# Altium integrated library TI Data Converters Analog to Digital Converter.IntLib: 2197 symbols (part 105 of 168)
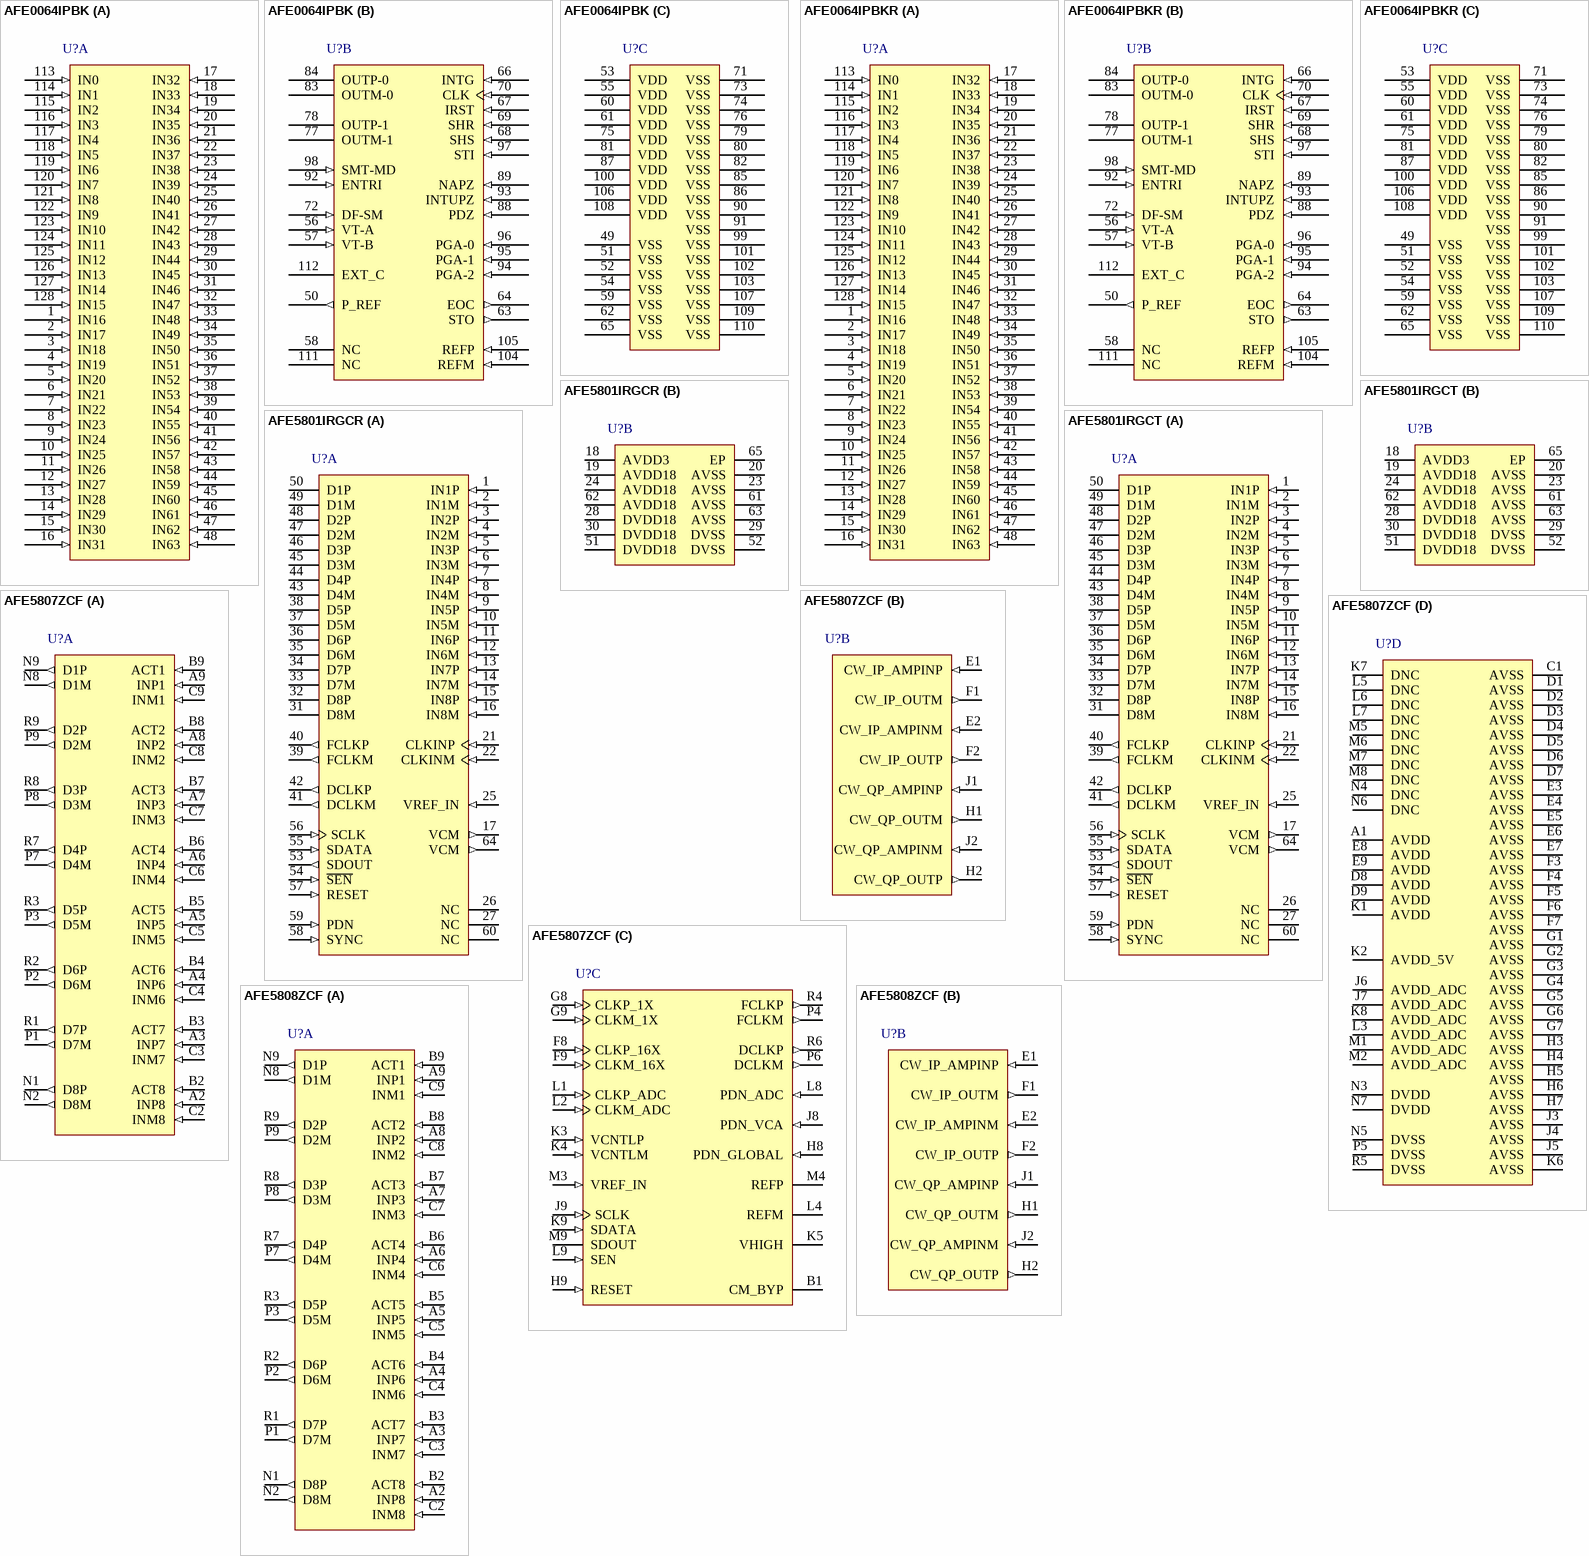
[diagram p230: symbols AFE0064IPBK to AFE5808ZCF]

## AFE5801IRGCR
designator U?
8-Channel VGA with ADC, -40 to 85 degC, 64-pin QFN (RGC64), Green (RoHS & no Sb/Br); Manufacturer: Texas Instruments; PartNumber: AFE5801IRGCR; # Input Channels: 8; Analog Voltage AV/DD(Max)(V): 1.7; Analog Voltage AV/DD(Min)(V): 1.9; Resolution(Bits): 12; SFDR(dB): 65; SNR(dB): 66; SubFamily: High Speed ADC (>10MSPS); DatasheetVersion: SLOS591D; PackageVersion: 4204106/F, 11/2011; PackageReference: RGC64-7400X7400TP; PackageDescription: 64-Pin Plastic Quad Flatpack No-Lead, Body 9 x 9 mm, Pitch 0.5 mm; Supplier 1: Digi-Key; Supplier Part Number 1: ADS1210P-ND; Supplier 2: Newark; Supplier Part Number 2: 96K4580; Supplier 3: Mouser; Supplier Part Number 3: 595-ADS1210P; Digital Supply(Max)(V): 1.7; Digital Supply(Min)(V): 1.9; Eco-Plan: Green (RoHS & no Sb/Br); Mounting Technology: Surface Mount; ComponentLink1Description: Manufacturer URL; ComponentLink1URL: http://www.ti.com/; ComponentLink2Description: Datasheet; ComponentLink2URL: http://www.ti.com/general/docs/lit/getliterature.tsp?genericPartNumber=AFE5801&fileType=pdf; ComponentLink3Description: Package Specification; ComponentLink3URL: http://www.ti.com/litv/pdf/mpqf125e
footprint TI-RGC64-7400X7400TP_V (QFN, 64-Leads, Body 9x9mm, Pitch 0.5mm, Thermal Pad 7.4x7.4mm, TI Recommended)
part A pins: 1 IN1P (in) "Differential analog input pins for channels 1 to 8", 2 IN1M (in) "Differential analog input pins for channels 1 to 8", 3 IN2P (in) "Differential analog input pins for channels 1 to 8", 4 IN2M (in) "Differential analog input pins for channels 1 to 8", 5 IN3P (in) "Differential analog input pins for channels 1 to 8", 6 IN3M (in) "Differential analog input pins for channels 1 to 8", 7 IN4P (in) "Differential analog input pins for channels 1 to 8", 8 IN4M (in) "Differential analog input pins for channels 1 to 8", 9 IN5P (in) "Differential analog input pins for channels 1 to 8", 10 IN5M (in) "Differential analog input pins for channels 1 to 8", 11 IN6P (in) "Differential analog input pins for channels 1 to 8", 12 IN6M (in) "Differential analog input pins for channels 1 to 8", 13 IN7P (in) "Differential analog input pins for channels 1 to 8", 14 IN7M (in) "Differential analog input pins for channels 1 to 8", 15 IN8P (in) "Differential analog input pins for channels 1 to 8", 16 IN8M (in) "Differential analog input pins for channels 1 to 8", 17 VCM (out) "Common-mode output pins for possible bias of the analog input signals", 21 CLKINP (in) "Differential clock input pins. Single-ended clock is also supported. See the Clock Inputs section.", 22 CLKINM (in) "Differential clock input pins. Single-ended clock is also supported. See the Clock Inputs section.", 25 VREF_IN (in) "Reference input in the external reference mode", 26 NC "Do not connect", 27 NC "Do not connect", 31 D8M (hiz) "LVDS outputs for channels 1 to 8", 32 D8P (hiz) "LVDS outputs for channels 1 to 8", 33 D7M (hiz) "LVDS outputs for channels 1 to 8", 34 D7P (hiz) "LVDS outputs for channels 1 to 8", 35 D6M (hiz) "LVDS outputs for channels 1 to 8", 36 D6P (hiz) "LVDS outputs for channels 1 to 8", 37 D5M (hiz) "LVDS outputs for channels 1 to 8", 38 D5P (hiz) "LVDS outputs for channels 1 to 8", 39 FCLKM (out) "LVDS frame clock output", 40 FCLKP (out) "LVDS frame clock output", 41 DCLKM (out) "LVDS bit clock output", 42 DCLKP (out) "LVDS bit clock output", 43 D4M (hiz) "LVDS outputs for channels 1 to 8", 44 D4P (hiz) "LVDS outputs for channels 1 to 8", 45 D3M (hiz) "LVDS outputs for channels 1 to 8", 46 D3P (hiz) "LVDS outputs for channels 1 to 8", 47 D2M (hiz) "LVDS outputs for channels 1 to 8", 48 D2P (hiz) "LVDS outputs for channels 1 to 8", 49 D1M (hiz) "LVDS outputs for channels 1 to 8", 50 D1P (hiz) "LVDS outputs for channels 1 to 8", 53 SDOUT (out) "Serial interface data readout", 54 ~{SEN} (in) "Serial interface enable. 100kohm pullup resistor", 55 SDATA (in) "Serial interface data input. 100kohm pulldown resistor", 56 SCLK (in) "Serial interface clock input. 100kohm pulldown resistor", 57 RESET (in) "Hardware reset pin (active-high). 100kohm pulldown resistor", 58 SYNC (in) "TGC/VGA synchronization signal input. 100kohm pulldown resistor", 59 PDN (in) "Global power-down control input (active-high). 100kohm pulldown resistor", 60 NC "Do not connect", 64 VCM (out) "Common-mode output pins for possible bias of the analog input signals"
part B pins: 18 AVDD3 (power) "3.3V analog supply voltage", 19 AVDD18 (power) "1.8V analog supply voltage", 20 AVSS (power) "Analog ground", 23 AVSS (power) "Analog ground", 24 AVDD18 (power) "1.8V analog supply voltage", 28 DVDD18 (power) "1.8V LVDS buffer supply voltage", 29 DVSS (power) "Digital ground", 30 DVDD18 (power) "1.8V LVDS buffer supply voltage", 51 DVDD18 (power) "1.8V LVDS buffer supply voltage", 52 DVSS (power) "Digital ground", 61 AVSS (power) "Analog ground", 62 AVDD18 (power) "1.8V analog supply voltage", 63 AVSS (power) "Analog ground", 65 EP (power) "Connect to AVSS"

## AFE5801IRGCT
designator U?
8-Channel VGA with ADC, -40 to 85 degC, 64-pin QFN (RGC64), Green (RoHS & no Sb/Br); Manufacturer: Texas Instruments; PartNumber: AFE5801IRGCT; # Input Channels: 8; Analog Voltage AV/DD(Max)(V): 1.7; Analog Voltage AV/DD(Min)(V): 1.9; Resolution(Bits): 12; SFDR(dB): 65; SNR(dB): 66; SubFamily: High Speed ADC (>10MSPS); DatasheetVersion: SLOS591D; PackageVersion: 4204106/F, 11/2011; PackageReference: RGC64-7400X7400TP; PackageDescription: 64-Pin Plastic Quad Flatpack No-Lead, Body 9 x 9 mm, Pitch 0.5 mm; Supplier 1: Digi-Key; Supplier Part Number 1: ADS1210PG4-ND; Supplier 2: Newark; Supplier Part Number 2: 26M8819; Supplier 3: Mouser; Supplier Part Number 3: 595-ADS1210PG4; Digital Supply(Max)(V): 1.7; Digital Supply(Min)(V): 1.9; Eco-Plan: Green (RoHS & no Sb/Br); Mounting Technology: Surface Mount; ComponentLink1Description: Manufacturer URL; ComponentLink1URL: http://www.ti.com/; ComponentLink2Description: Datasheet; ComponentLink2URL: http://www.ti.com/general/docs/lit/getliterature.tsp?genericPartNumber=AFE5801&fileType=pdf; ComponentLink3Description: Package Specification; ComponentLink3URL: http://www.ti.com/litv/pdf/mpqf125e
footprint TI-RGC64-7400X7400TP_V (QFN, 64-Leads, Body 9x9mm, Pitch 0.5mm, Thermal Pad 7.4x7.4mm, TI Recommended)
part A pins: 1 IN1P (in) "Differential analog input pins for channels 1 to 8", 2 IN1M (in) "Differential analog input pins for channels 1 to 8", 3 IN2P (in) "Differential analog input pins for channels 1 to 8", 4 IN2M (in) "Differential analog input pins for channels 1 to 8", 5 IN3P (in) "Differential analog input pins for channels 1 to 8", 6 IN3M (in) "Differential analog input pins for channels 1 to 8", 7 IN4P (in) "Differential analog input pins for channels 1 to 8", 8 IN4M (in) "Differential analog input pins for channels 1 to 8", 9 IN5P (in) "Differential analog input pins for channels 1 to 8", 10 IN5M (in) "Differential analog input pins for channels 1 to 8", 11 IN6P (in) "Differential analog input pins for channels 1 to 8", 12 IN6M (in) "Differential analog input pins for channels 1 to 8", 13 IN7P (in) "Differential analog input pins for channels 1 to 8", 14 IN7M (in) "Differential analog input pins for channels 1 to 8", 15 IN8P (in) "Differential analog input pins for channels 1 to 8", 16 IN8M (in) "Differential analog input pins for channels 1 to 8", 17 VCM (out) "Common-mode output pins for possible bias of the analog input signals", 21 CLKINP (in) "Differential clock input pins. Single-ended clock is also supported. See the Clock Inputs section.", 22 CLKINM (in) "Differential clock input pins. Single-ended clock is also supported. See the Clock Inputs section.", 25 VREF_IN (in) "Reference input in the external reference mode", 26 NC "Do not connect", 27 NC "Do not connect", 31 D8M (hiz) "LVDS outputs for channels 1 to 8", 32 D8P (hiz) "LVDS outputs for channels 1 to 8", 33 D7M (hiz) "LVDS outputs for channels 1 to 8", 34 D7P (hiz) "LVDS outputs for channels 1 to 8", 35 D6M (hiz) "LVDS outputs for channels 1 to 8", 36 D6P (hiz) "LVDS outputs for channels 1 to 8", 37 D5M (hiz) "LVDS outputs for channels 1 to 8", 38 D5P (hiz) "LVDS outputs for channels 1 to 8", 39 FCLKM (out) "LVDS frame clock output", 40 FCLKP (out) "LVDS frame clock output", 41 DCLKM (out) "LVDS bit clock output", 42 DCLKP (out) "LVDS bit clock output", 43 D4M (hiz) "LVDS outputs for channels 1 to 8", 44 D4P (hiz) "LVDS outputs for channels 1 to 8", 45 D3M (hiz) "LVDS outputs for channels 1 to 8", 46 D3P (hiz) "LVDS outputs for channels 1 to 8", 47 D2M (hiz) "LVDS outputs for channels 1 to 8", 48 D2P (hiz) "LVDS outputs for channels 1 to 8", 49 D1M (hiz) "LVDS outputs for channels 1 to 8", 50 D1P (hiz) "LVDS outputs for channels 1 to 8", 53 SDOUT (out) "Serial interface data readout", 54 ~{SEN} (in) "Serial interface enable. 100kohm pullup resistor", 55 SDATA (in) "Serial interface data input. 100kohm pulldown resistor", 56 SCLK (in) "Serial interface clock input. 100kohm pulldown resistor", 57 RESET (in) "Hardware reset pin (active-high). 100kohm pulldown resistor", 58 SYNC (in) "TGC/VGA synchronization signal input. 100kohm pulldown resistor", 59 PDN (in) "Global power-down control input (active-high). 100kohm pulldown resistor", 60 NC "Do not connect", 64 VCM (out) "Common-mode output pins for possible bias of the analog input signals"
part B pins: 18 AVDD3 (power) "3.3V analog supply voltage", 19 AVDD18 (power) "1.8V analog supply voltage", 20 AVSS (power) "Analog ground", 23 AVSS (power) "Analog ground", 24 AVDD18 (power) "1.8V analog supply voltage", 28 DVDD18 (power) "1.8V LVDS buffer supply voltage", 29 DVSS (power) "Digital ground", 30 DVDD18 (power) "1.8V LVDS buffer supply voltage", 51 DVDD18 (power) "1.8V LVDS buffer supply voltage", 52 DVSS (power) "Digital ground", 61 AVSS (power) "Analog ground", 62 AVDD18 (power) "1.8V analog supply voltage", 63 AVSS (power) "Analog ground", 65 EP (power) "Connect to AVSS"

## AFE5807ZCF
designator U?
8-Channel Analog Front End with Passive CW Mixer for Ultrasound, 0 to 85 degC, 135-pin BGA (ZCF135), Green (RoHS & no Sb/Br); Manufacturer: Texas Instruments; PartNumber: AFE5807ZCF; # Input Channels: 8; Analog Voltage AV/DD(Max)(V): 3.6; Analog Voltage AV/DD(Min)(V): 3.15; Digital Supply(Max)(V): 1.9; Digital Supply(Min)(V): 1.7; Resolution(Bits): 12; Sample Rate (max)(SPS): 80M; SNR(dB): 66.3; SubFamily: High Speed ADC (>10MSPS); DatasheetVersion: SLOS703C; PackageVersion: 4209006/A, 09/2007; PackageReference: ZCF135; PackageDescription: 135-Pin Plastic Grid Array, Body 15 x 9 mm, Pitch 1 mm; Supplier 1: Digi-Key; Supplier Part Number 1: ADS1210U-ND; Supplier 2: Mouser; Supplier Part Number 2: 595-ADS1210U; Eco-Plan: Green (RoHS & no Sb/Br); Mounting Technology: Surface Mount; ComponentLink1Description: Manufacturer URL; ComponentLink1URL: http://www.ti.com/; ComponentLink2Description: Datasheet; ComponentLink2URL: http://www.ti.com/general/docs/lit/getliterature.tsp?genericPartNumber=AFE5807&fileType=pdf; ComponentLink3Description: Package Specification; ComponentLink3URL: http://www.ti.com/litv/pdf/mpbg840
footprint TI-ZCF135 (BGA, 135-Balls, Body 15x9mm, Pitch 1mm)
part A pins: A2 INP8 (in) "CH1~8 analog inputs. AC couple to inputs with >= 0.1uF capacitors.", A3 INP7 (in) "CH1~8 analog inputs. AC couple to inputs with >= 0.1uF capacitors.", A4 INP6 (in) "CH1~8 analog inputs. AC couple to inputs with >= 0.1uF capacitors.", A5 INP5 (in) "CH1~8 analog inputs. AC couple to inputs with >= 0.1uF capacitors.", A6 INP4 (in) "CH1~8 analog inputs. AC couple to inputs with >= 0.1uF capacitors.", A7 INP3 (in) "CH1~8 analog inputs. AC couple to inputs with >= 0.1uF capacitors.", A8 INP2 (in) "CH1~8 analog inputs. AC couple to inputs with >= 0.1uF capacitors.", A9 INP1 (in) "CH1~8 analog inputs. AC couple to inputs with >= 0.1uF capacitors.", B2 ACT8 (in) "Active termination input pins for CH1~8. 1 uF capacitors are recommended.", B3 ACT7 (in) "Active termination input pins for CH1~8. 1 uF capacitors are recommended.", B4 ACT6 (in) "Active termination input pins for CH1~8. 1 uF capacitors are recommended.", B5 ACT5 (in) "Active termination input pins for CH1~8. 1 uF capacitors are recommended.", B6 ACT4 (in) "Active termination input pins for CH1~8. 1 uF capacitors are recommended.", B7 ACT3 (in) "Active termination input pins for CH1~8. 1 uF capacitors are recommended.", B8 ACT2 (in) "Active termination input pins for CH1~8. 1 uF capacitors are recommended.", B9 ACT1 (in) "Active termination input pins for CH1~8. 1 uF capacitors are recommended.", C2 INM8 (in) "CH1~8 complimentary analog inputs. Bypass to ground with >= 0.015uF capacitors. The HPF response of the LNA depends on the capacitors.", C3 INM7 (in) "CH1~8 complimentary analog inputs. Bypass to ground with >= 0.015uF capacitors. The HPF response of the LNA depends on the capacitors.", C4 INM6 (in) "CH1~8 complimentary analog inputs. Bypass to ground with >= 0.015uF capacitors. The HPF response of the LNA depends on the capacitors.", C5 INM5 (in) "CH1~8 complimentary analog inputs. Bypass to ground with >= 0.015uF capacitors. The HPF response of the LNA depends on the capacitors.", C6 INM4 (in) "CH1~8 complimentary analog inputs. Bypass to ground with >= 0.015uF capacitors. The HPF response of the LNA depends on the capacitors.", C7 INM3 (in) "CH1~8 complimentary analog inputs. Bypass to ground with >= 0.015uF capacitors. The HPF response of the LNA depends on the capacitors.", C8 INM2 (in) "CH1~8 complimentary analog inputs. Bypass to ground with >= 0.015uF capacitors. The HPF response of the LNA depends on the capacitors.", C9 INM1 (in) "CH1~8 complimentary analog inputs. Bypass to ground with >= 0.015uF capacitors. The HPF response of the LNA depends on the capacitors.", N1 D8P (out) "ADC CH1~8 LVDS positive outputs", N2 D8M (out) "ADC CH1~8 LVDS negative outputs", N8 D1M (out) "ADC CH1~8 LVDS negative outputs", N9 D1P (out) "ADC CH1~8 LVDS positive outputs", P1 D7M (out) "ADC CH1~8 LVDS negative outputs", P2 D6M (out) "ADC CH1~8 LVDS negative outputs", P3 D5M (out) "ADC CH1~8 LVDS negative outputs", P7 D4M (out) "ADC CH1~8 LVDS negative outputs", P8 D3M (out) "ADC CH1~8 LVDS negative outputs", P9 D2M (out) "ADC CH1~8 LVDS negative outputs", R1 D7P (out) "ADC CH1~8 LVDS positive outputs", R2 D6P (out) "ADC CH1~8 LVDS positive outputs", R3 D5P (out) "ADC CH1~8 LVDS positive outputs", R7 D4P (out) "ADC CH1~8 LVDS positive outputs", R8 D3P (out) "ADC CH1~8 LVDS positive outputs", R9 D2P (out) "ADC CH1~8 LVDS positive outputs"
part B pins: E1 CW_IP_AMPINP (in) "Positive differential input of the In-phase summing amplifier. External LPF capacitor has to be connected between CW_IP_AMPINP and CW_IP_OUTM. This pin becomes the CH7 PGA positive output when PGA test mode is enabled. Can (See Datasheet)", E2 CW_IP_AMPINM (in) "Negative differential input of the In-phase summing amplifier. External LPF capacitor has to be connected between CW_IP_AMPINM and CW_IP_OUTP. This pin becomes the CH7 PGA negative output when PGA test mode is enabled. Can (See Datasheet)", F1 CW_IP_OUTM (out) "Negative differential output for the In-phase summing amplifier. External LPF capacitor has to be connected between CW_IP_AMPINP and CW_IP_OUTPM. Can be floated if not used.", F2 CW_IP_OUTP (out) "Positive differential output for the In-phase summing amplifier. External LPF capacitor has to be connected between CW_IP_AMPINM and CW_IP_OUTP. Can be floated if not used.", H1 CW_QP_OUTM (out) "Negative differential output for the quadrature-phase summing amplifier. External LPF capacitor has to be connected between CW_QP_AMPINP and CW_QP_OUTM. Can be floated if not used.", H2 CW_QP_OUTP (out) "Positive differential output for the quadrature-phase summing amplifier. External LPF capacitor has to be connected between CW_QP_AMPINM and CW_QP_OUTP. Can be floated if not used.", J1 CW_QP_AMPINP (in) "Positive differential input of the quadrature-phase summing amplifier. External LPF capacitor has to be connected between CW_QP_AMPINP and CW_QP_OUTM. This pin becomes CH8 PGA positive output when PGA test mode is enabled. (See Datasheet)", J2 CW_QP_AMPINM (in) "Negative differential input of the quadrature-phase summing amplifier. External LPF capacitor has to be connected between CW_QP_AMPINM and CW_QP_OUTP. This pin becomes CH8 PGA negative output when PGA test mode is enabled. (See Datasheet)"
part C pins: B1 CM_BYP "Bias voltage and bypass to ground. >= 1uF is recommended. To suppress ultra low frequency noise, 10uF can be used.", F8 CLKP_16X (in) "Positive input of differential CW 16X clock. In 4X and 8X clock modes, this pin becomes the 4X or 8X CLKP input. In the 1X CW clock mode, this pin becomes the quadrature-phase 1X CLKP for the CW mixer. Can be floated if CW (See Datasheet)", F9 CLKM_16X (in) "Negative input of differential CW 16X clock. Tie to GND when the CMOS clock mode is enabled. In the 4X and 8X CW clock modes, this pin becomes the 4X or 8X CLKM input. In the 1X CW clock mode, this pin becomes the (See Datasheet)", G8 CLKP_1X (in) "Positive input of differential CW 1X clock. In the 1X clock mode, this pin is the In-phase 1X CLKP for the CW mixer. Can be floated if CW mode is not used.", G9 CLKM_1X (in) "Negative input of differential CW 1X clock. Tie to GND when the CMOS clock mode is enabled (Refer to Figure 89 for details). In the 1X clock mode, this pin is the In-phase 1X CLKM for the CW mixer. Can be floated if CW mode (See Datasheet)", H8 PDN_GLOBAL (in) "Global (complete) power-down control pin for the entire chip with an internal pull down resistor of 20kohm. Active High, 3.3V logic level is recommended.", H9 RESET (in) "Hardware reset pin with an internal pull-down resistor of 20kohm. Active high, 3.3V logic level is recommended.", J8 PDN_VCA (in) "VCA partial (fast) power down control pin with an internal pull down resistor of 20kohm. Active High, 3.3V logic level is recommended.", J9 SCLK (in) "Serial interface clock input with an internal pull-down resistor of 20kohm, 3.3V logic level is recommended.", K3 VCNTLP (in) "Positive differential attenuation control pin. Common mode voltage is 0.75V", K4 VCNTLM (in) "Negative differential attenuation control pin. Common mode voltage is 0.75V", K5 VHIGH "Bias voltage; bypass to ground with >=1uF.", K9 SDATA (in) "Serial interface data input with an internal pull-down resistor of 20kohm, 3.3V logic level is recommended.", L1 CLKP_ADC (in) "Positive input of differential ADC clock. In the single-end clock mode, it can be tied to clock signal directly or through a 0.1uF capacitor.", L2 CLKM_ADC (in) "Negative input of differential ADC clock. In the single-end clock mode, it can be tied to GND directly or through a 0.1uF capacitor.", L4 REFM "0.5V reference output in the internal reference mode. Must leave floated in the internal reference mode. Adding test point on PCB is recommended for monitoring the reference output.", L8 PDN_ADC (in) "ADC partial (fast) power down control pin with an internal pull down resistor of 100kohm. Active High. Either 1.8V or 3.3V logic level can be used.", L9 SEN (in) "Serial interface enable with an internal pull up resistor of 20kohm. Active low, 3.3V logic level is recommended.", M3 VREF_IN (in) "ADC 1.4V reference input in the external reference mode; bypass to ground with 0.1uF.", M4 REFP "1.5V reference output in the internal reference mode. Must leave floated in the internal reference mode. Adding test point on PCB is recommended for monitoring the reference output.", M9 SDOUT (hiz) "Serial interface data readout. High impedance when readout is disabled, 1.8V logic.", P4 FCLKM (out) "LVDS frame clock (1X) negative output", P6 DCLKM (out) "LVDS bit clock (6x or 7x) negative output", R4 FCLKP (out) "LVDS frame clock (1X) positive output", R6 DCLKP (out) "LVDS bit clock (6x or 7x) positive output"
part D pins: A1 AVDD (power) "3.3V Analog supply for LNA, VCAT, PGA, LPF and CWD blocks.", C1 AVSS (power) "Analog ground.", D1 AVSS (power) "Analog ground.", D2 AVSS (power) "Analog ground.", D3 AVSS (power) "Analog ground.", D4 AVSS (power) "Analog ground.", D5 AVSS (power) "Analog ground.", D6 AVSS (power) "Analog ground.", D7 AVSS (power) "Analog ground.", D8 AVDD (power) "3.3V Analog supply for LNA, VCAT, PGA, LPF and CWD blocks.", D9 AVDD (power) "3.3V Analog supply for LNA, VCAT, PGA, LPF and CWD blocks.", E3 AVSS (power) "Analog ground.", E4 AVSS (power) "Analog ground.", E5 AVSS (power) "Analog ground.", E6 AVSS (power) "Analog ground.", E7 AVSS (power) "Analog ground.", E8 AVDD (power) "3.3V Analog supply for LNA, VCAT, PGA, LPF and CWD blocks.", E9 AVDD (power) "3.3V Analog supply for LNA, VCAT, PGA, LPF and CWD blocks.", F3 AVSS (power) "Analog ground.", F4 AVSS (power) "Analog ground.", F5 AVSS (power) "Analog ground.", F6 AVSS (power) "Analog ground.", F7 AVSS (power) "Analog ground.", G1 AVSS (power) "Analog ground.", G2 AVSS (power) "Analog ground.", G3 AVSS (power) "Analog ground.", G4 AVSS (power) "Analog ground.", G5 AVSS (power) "Analog ground.", G6 AVSS (power) "Analog ground.", G7 AVSS (power) "Analog ground.", H3 AVSS (power) "Analog ground.", H4 AVSS (power) "Analog ground.", H5 AVSS (power) "Analog ground.", H6 AVSS (power) "Analog ground.", H7 AVSS (power) "Analog ground.", J3 AVSS (power) "Analog ground.", J4 AVSS (power) "Analog ground.", J5 AVSS (power) "Analog ground.", J6 AVDD_ADC (power) "1.8V Analog power supply for ADC.", J7 AVDD_ADC (power) "1.8V Analog power supply for ADC.", K1 AVDD (power) "3.3V Analog supply for LNA, VCAT, PGA, LPF and CWD blocks.", K2 AVDD_5V (power) "5V Analog supply for LNA, VCAT, PGA, LPF and CWD blocks.", K6 AVSS (power) "Analog ground.", K7 DNC "Do not connect. Must leave floated", K8 AVDD_ADC (power) "1.8V Analog power supply for ADC.", L3 AVDD_ADC (power) "1.8V Analog power supply for ADC.", L5 DNC "Do not connect. Must leave floated", L6 DNC "Do not connect. Must leave floated", L7 DNC "Do not connect. Must leave floated", M1 AVDD_ADC (power) "1.8V Analog power supply for ADC.", M2 AVDD_ADC (power) "1.8V Analog power supply for ADC.", M5 DNC "Do not connect. Must leave floated", M6 DNC "Do not connect. Must leave floated", M7 DNC "Do not connect. Must leave floated", M8 DNC "Do not connect. Must leave floated", N3 DVDD (power) "ADC digital and I/O power supply, 1.8V", N4 DNC "Do not connect. Must leave floated", N5 DVSS (power) "ADC digital ground", N6 DNC "Do not connect. Must leave floated", N7 DVDD (power) "ADC digital and I/O power supply, 1.8V", P5 DVSS (power) "ADC digital ground", R5 DVSS (power) "ADC digital ground"

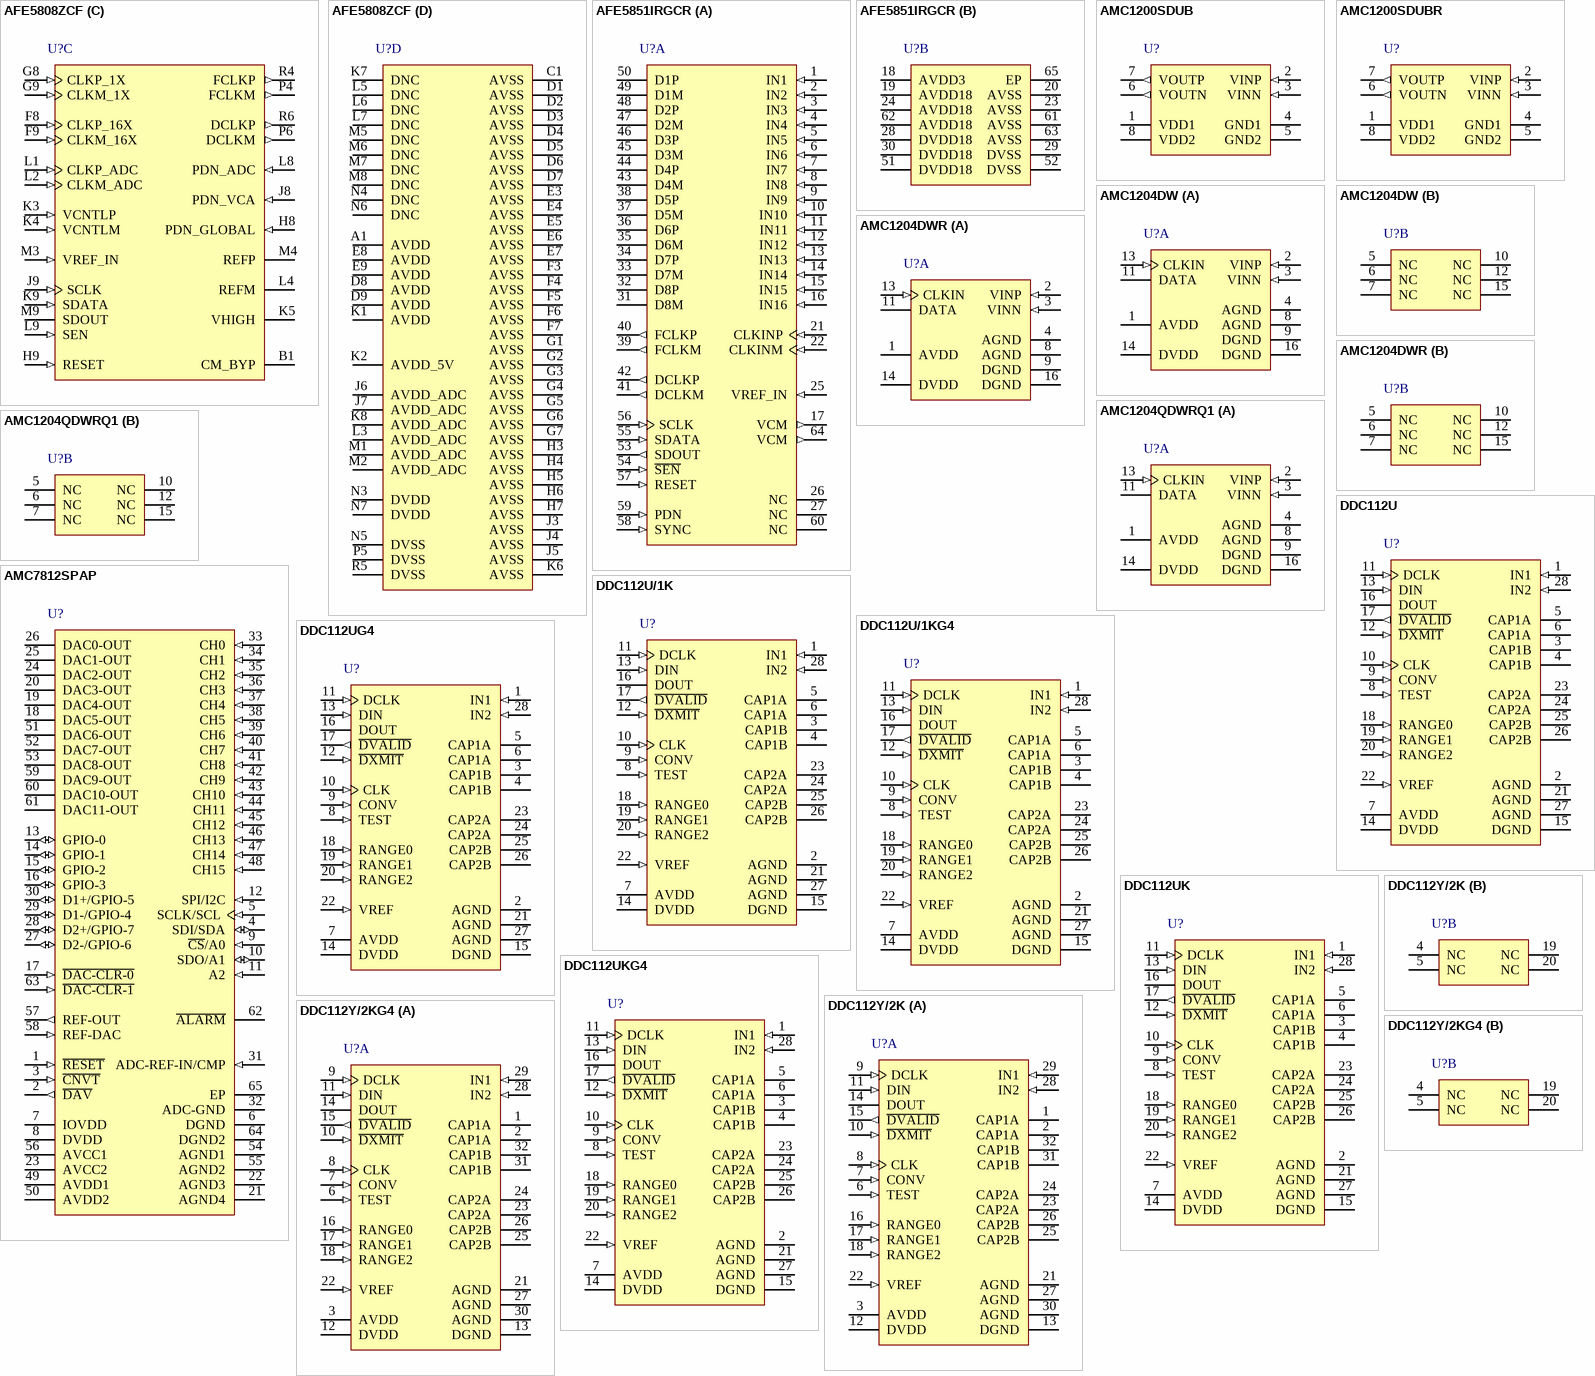
[diagram p89: symbols AFE5808ZCF to DDC112Y/2KG4]

## AFE5808ZCF
designator U?
8-Channel Analog Front End with Passive CW Mixer for Ultrasound, 0 to 70 degC, 135-pin BGA (ZCF135), Green (RoHS & no Sb/Br); Manufacturer: Texas Instruments; PartNumber: AFE5808ZCF; # Input Channels: 8; Analog Voltage AV/DD(Max)(V): 3.6; Analog Voltage AV/DD(Min)(V): 3.15; Digital Supply(Max)(V): 1.9; Digital Supply(Min)(V): 1.7; Resolution(Bits): 14; Sample Rate (max)(SPS): 65M; SNR(dB): 77; SubFamily: High Speed ADC (>10MSPS); DatasheetVersion: SLOS688C; PackageVersion: 4209006/A, 09/2007; PackageReference: ZCF135; PackageDescription: 135-Pin Plastic Grid Array, Body 15 x 9 mm, Pitch 1 mm; Supplier 1: Digi-Key; Supplier Part Number 1: 296-25892-2-ND; Supplier 2: Digi-Key; Supplier Part Number 2: 296-25892-1-ND; Supplier 3: Digi-Key; Supplier Part Number 3: 296-25892-6-ND; Supplier 4: Newark; Supplier Part Number 4: 74C6975; Supplier 5: Mouser; Supplier Part Number 5: 595-ADS1210U/1K; Eco-Plan: Green (RoHS & no Sb/Br); Mounting Technology: Surface Mount; ComponentLink1Description: Manufacturer URL; ComponentLink1URL: http://www.ti.com/; ComponentLink2Description: Datasheet; ComponentLink2URL: http://www.ti.com/general/docs/lit/getliterature.tsp?genericPartNumber=AFE5808&fileType=pdf; ComponentLink3Description: Package Specification; ComponentLink3URL: http://www.ti.com/litv/pdf/mpbg840
footprint TI-ZCF135 (BGA, 135-Balls, Body 15x9mm, Pitch 1mm)
part A pins: A2 INP8 (in) "CH1~8 analog inputs. AC couple to inputs with >= 0.1uF capacitors.", A3 INP7 (in) "CH1~8 analog inputs. AC couple to inputs with >= 0.1uF capacitors.", A4 INP6 (in) "CH1~8 analog inputs. AC couple to inputs with >= 0.1uF capacitors.", A5 INP5 (in) "CH1~8 analog inputs. AC couple to inputs with >= 0.1uF capacitors.", A6 INP4 (in) "CH1~8 analog inputs. AC couple to inputs with >= 0.1uF capacitors.", A7 INP3 (in) "CH1~8 analog inputs. AC couple to inputs with >= 0.1uF capacitors.", A8 INP2 (in) "CH1~8 analog inputs. AC couple to inputs with >= 0.1uF capacitors.", A9 INP1 (in) "CH1~8 analog inputs. AC couple to inputs with >= 0.1uF capacitors.", B2 ACT8 (in) "Active termination input pins for CH1~8. 1 uF capacitors are recommended.", B3 ACT7 (in) "Active termination input pins for CH1~8. 1 uF capacitors are recommended.", B4 ACT6 (in) "Active termination input pins for CH1~8. 1 uF capacitors are recommended.", B5 ACT5 (in) "Active termination input pins for CH1~8. 1 uF capacitors are recommended.", B6 ACT4 (in) "Active termination input pins for CH1~8. 1 uF capacitors are recommended.", B7 ACT3 (in) "Active termination input pins for CH1~8. 1 uF capacitors are recommended.", B8 ACT2 (in) "Active termination input pins for CH1~8. 1 uF capacitors are recommended.", B9 ACT1 (in) "Active termination input pins for CH1~8. 1 uF capacitors are recommended.", C2 INM8 (in) "CH1~8 complimentary analog inputs. Bypass to ground with >= 0.015uF capacitors. The HPF response of the LNA depends on the capacitors.", C3 INM7 (in) "CH1~8 complimentary analog inputs. Bypass to ground with >= 0.015uF capacitors. The HPF response of the LNA depends on the capacitors.", C4 INM6 (in) "CH1~8 complimentary analog inputs. Bypass to ground with >= 0.015uF capacitors. The HPF response of the LNA depends on the capacitors.", C5 INM5 (in) "CH1~8 complimentary analog inputs. Bypass to ground with >= 0.015uF capacitors. The HPF response of the LNA depends on the capacitors.", C6 INM4 (in) "CH1~8 complimentary analog inputs. Bypass to ground with >= 0.015uF capacitors. The HPF response of the LNA depends on the capacitors.", C7 INM3 (in) "CH1~8 complimentary analog inputs. Bypass to ground with >= 0.015uF capacitors. The HPF response of the LNA depends on the capacitors.", C8 INM2 (in) "CH1~8 complimentary analog inputs. Bypass to ground with >= 0.015uF capacitors. The HPF response of the LNA depends on the capacitors.", C9 INM1 (in) "CH1~8 complimentary analog inputs. Bypass to ground with >= 0.015uF capacitors. The HPF response of the LNA depends on the capacitors.", N1 D8P (out) "ADC CH1~8 LVDS positive outputs", N2 D8M (out) "ADC CH1~8 LVDS negative outputs", N8 D1M (out) "ADC CH1~8 LVDS negative outputs", N9 D1P (out) "ADC CH1~8 LVDS positive outputs", P1 D7M (out) "ADC CH1~8 LVDS negative outputs", P2 D6M (out) "ADC CH1~8 LVDS negative outputs", P3 D5M (out) "ADC CH1~8 LVDS negative outputs", P7 D4M (out) "ADC CH1~8 LVDS negative outputs", P8 D3M (out) "ADC CH1~8 LVDS negative outputs", P9 D2M (out) "ADC CH1~8 LVDS negative outputs", R1 D7P (out) "ADC CH1~8 LVDS positive outputs", R2 D6P (out) "ADC CH1~8 LVDS positive outputs", R3 D5P (out) "ADC CH1~8 LVDS positive outputs", R7 D4P (out) "ADC CH1~8 LVDS positive outputs", R8 D3P (out) "ADC CH1~8 LVDS positive outputs", R9 D2P (out) "ADC CH1~8 LVDS positive outputs"
part B pins: E1 CW_IP_AMPINP (in) "Positive differential input of the In-phase summing amplifier. External LPF capacitor has to be connected between CW_IP_AMPINP and CW_IP_OUTM. This pin becomes the CH7 PGA positive output when PGA test mode is enabled. Can (See Datasheet)", E2 CW_IP_AMPINM (in) "Negative differential input of the In-phase summing amplifier. External LPF capacitor has to be connected between CW_IP_AMPINM and CW_IP_OUTP. This pin becomes the CH7 PGA negative output when PGA test mode is enabled. Can (See Datasheet)", F1 CW_IP_OUTM (out) "Negative differential output for the In-phase summing amplifier. External LPF capacitor has to be connected between CW_IP_AMPINP and CW_IP_OUTPM. Can be floated if not used.", F2 CW_IP_OUTP (out) "Positive differential output for the In-phase summing amplifier. External LPF capacitor has to be connected between CW_IP_AMPINM and CW_IP_OUTP. Can be floated if not used.", H1 CW_QP_OUTM (out) "Negative differential output for the quadrature-phase summing amplifier. External LPF capacitor has to be connected between CW_QP_AMPINP and CW_QP_OUTM. Can be floated if not used.", H2 CW_QP_OUTP (out) "Positive differential output for the quadrature-phase summing amplifier. External LPF capacitor has to be connected between CW_QP_AMPINM and CW_QP_OUTP. Can be floated if not used.", J1 CW_QP_AMPINP (in) "Positive differential input of the quadrature-phase summing amplifier. External LPF capacitor has to be connected between CW_QP_AMPINP and CW_QP_OUTM. This pin becomes CH8 PGA positive output when PGA test mode is enabled. (See Datasheet)", J2 CW_QP_AMPINM (in) "Negative differential input of the quadrature-phase summing amplifier. External LPF capacitor has to be connected between CW_QP_AMPINM and CW_QP_OUTP. This pin becomes CH8 PGA negative output when PGA test mode is enabled. (See Datasheet)"
part C pins: B1 CM_BYP "Bias voltage and bypass to ground. >= 1uF is recommended. To suppress ultra low frequency noise, 10uF can be used.", F8 CLKP_16X (in) "Positive input of differential CW 16X clock. In 4X and 8X clock modes, this pin becomes the 4X or 8X CLKP input. In the 1X CW clock mode, this pin becomes the quadrature-phase 1X CLKP for the CW mixer. Can be floated if CW (See Datasheet)", F9 CLKM_16X (in) "Negative input of differential CW 16X clock. Tie to GND when the CMOS clock mode is enabled. In the 4X and 8X CW clock modes, this pin becomes the 4X or 8X CLKM input. In the 1X CW clock mode, this pin becomes the (See Datasheet)", G8 CLKP_1X (in) "Positive input of differential CW 1X clock. In the 1X clock mode, this pin is the In-phase 1X CLKP for the CW mixer. Can be floated if CW mode is not used.", G9 CLKM_1X (in) "Negative input of differential CW 1X clock. Tie to GND when the CMOS clock mode is enabled (Refer to Figure 89 for details). In the 1X clock mode, this pin is the In-phase 1X CLKM for the CW mixer. Can be floated if CW mode (See Datasheet)", H8 PDN_GLOBAL (in) "Global (complete) power-down control pin for the entire chip with an internal pull down resistor of 20kohm. Active High, 3.3V logic level is recommended.", H9 RESET (in) "Hardware reset pin with an internal pull-down resistor of 20kohm. Active high, 3.3V logic level is recommended.", J8 PDN_VCA (in) "VCA partial (fast) power down control pin with an internal pull down resistor of 20kohm. Active High, 3.3V logic level is recommended.", J9 SCLK (in) "Serial interface clock input with an internal pull-down resistor of 20kohm, 3.3V logic level is recommended.", K3 VCNTLP (in) "Positive differential attenuation control pin. Common mode voltage is 0.75V", K4 VCNTLM (in) "Negative differential attenuation control pin. Common mode voltage is 0.75V", K5 VHIGH "Bias voltage; bypass to ground with >=1uF.", K9 SDATA (in) "Serial interface data input with an internal pull-down resistor of 20kohm, 3.3V logic level is recommended.", L1 CLKP_ADC (in) "Positive input of differential ADC clock. In the single-end clock mode, it can be tied to clock signal directly or through a 0.1uF capacitor.", L2 CLKM_ADC (in) "Negative input of differential ADC clock. In the single-end clock mode, it can be tied to GND directly or through a 0.1uF capacitor.", L4 REFM "0.5V reference output in the internal reference mode. Must leave floated in the internal reference mode. Adding test point on PCB is recommended for monitoring the reference output.", L8 PDN_ADC (in) "ADC partial (fast) power down control pin with an internal pull down resistor of 100kohm. Active High. Either 1.8V or 3.3V logic level can be used.", L9 SEN (in) "Serial interface enable with an internal pull up resistor of 20kohm. Active low, 3.3V logic level is recommended.", M3 VREF_IN (in) "ADC 1.4V reference input in the external reference mode; bypass to ground with 0.1uF.", M4 REFP "1.5V reference output in the internal reference mode. Must leave floated in the internal reference mode. Adding test point on PCB is recommended for monitoring the reference output.", M9 SDOUT (hiz) "Serial interface data readout. High impedance when readout is disabled, 1.8V logic.", P4 FCLKM (out) "LVDS frame clock (1X) negative output", P6 DCLKM (out) "LVDS bit clock (6x or 7x) negative output", R4 FCLKP (out) "LVDS frame clock (1X) positive output", R6 DCLKP (out) "LVDS bit clock (6x or 7x) positive output"
part D pins: A1 AVDD (power) "3.3V Analog supply for LNA, VCAT, PGA, LPF and CWD blocks.", C1 AVSS (power) "Analog ground.", D1 AVSS (power) "Analog ground.", D2 AVSS (power) "Analog ground.", D3 AVSS (power) "Analog ground.", D4 AVSS (power) "Analog ground.", D5 AVSS (power) "Analog ground.", D6 AVSS (power) "Analog ground.", D7 AVSS (power) "Analog ground.", D8 AVDD (power) "3.3V Analog supply for LNA, VCAT, PGA, LPF and CWD blocks.", D9 AVDD (power) "3.3V Analog supply for LNA, VCAT, PGA, LPF and CWD blocks.", E3 AVSS (power) "Analog ground.", E4 AVSS (power) "Analog ground.", E5 AVSS (power) "Analog ground.", E6 AVSS (power) "Analog ground.", E7 AVSS (power) "Analog ground.", E8 AVDD (power) "3.3V Analog supply for LNA, VCAT, PGA, LPF and CWD blocks.", E9 AVDD (power) "3.3V Analog supply for LNA, VCAT, PGA, LPF and CWD blocks.", F3 AVSS (power) "Analog ground.", F4 AVSS (power) "Analog ground.", F5 AVSS (power) "Analog ground.", F6 AVSS (power) "Analog ground.", F7 AVSS (power) "Analog ground.", G1 AVSS (power) "Analog ground.", G2 AVSS (power) "Analog ground.", G3 AVSS (power) "Analog ground.", G4 AVSS (power) "Analog ground.", G5 AVSS (power) "Analog ground.", G6 AVSS (power) "Analog ground.", G7 AVSS (power) "Analog ground.", H3 AVSS (power) "Analog ground.", H4 AVSS (power) "Analog ground.", H5 AVSS (power) "Analog ground.", H6 AVSS (power) "Analog ground.", H7 AVSS (power) "Analog ground.", J3 AVSS (power) "Analog ground.", J4 AVSS (power) "Analog ground.", J5 AVSS (power) "Analog ground.", J6 AVDD_ADC (power) "1.8V Analog power supply for ADC.", J7 AVDD_ADC (power) "1.8V Analog power supply for ADC.", K1 AVDD (power) "3.3V Analog supply for LNA, VCAT, PGA, LPF and CWD blocks.", K2 AVDD_5V (power) "5V Analog supply for LNA, VCAT, PGA, LPF and CWD blocks.", K6 AVSS (power) "Analog ground.", K7 DNC "Do not connect. Must leave floated", K8 AVDD_ADC (power) "1.8V Analog power supply for ADC.", L3 AVDD_ADC (power) "1.8V Analog power supply for ADC.", L5 DNC "Do not connect. Must leave floated", L6 DNC "Do not connect. Must leave floated", L7 DNC "Do not connect. Must leave floated", M1 AVDD_ADC (power) "1.8V Analog power supply for ADC.", M2 AVDD_ADC (power) "1.8V Analog power supply for ADC.", M5 DNC "Do not connect. Must leave floated", M6 DNC "Do not connect. Must leave floated", M7 DNC "Do not connect. Must leave floated", M8 DNC "Do not connect. Must leave floated", N3 DVDD (power) "ADC digital and I/O power supply, 1.8V", N4 DNC "Do not connect. Must leave floated", N5 DVSS (power) "ADC digital ground", N6 DNC "Do not connect. Must leave floated", N7 DVDD (power) "ADC digital and I/O power supply, 1.8V", P5 DVSS (power) "ADC digital ground", R5 DVSS (power) "ADC digital ground"

## AFE5851IRGCR
designator U?
16-Channel VGA with ADC, -40 to 85 degC, 64-pin QFN (RGC64), Green (RoHS & no Sb/Br); Manufacturer: Texas Instruments; PartNumber: AFE5851IRGCR; # Input Channels: 16; Analog Voltage AV/DD(Max)(V): 3.6; Analog Voltage AV/DD(Min)(V): 1.7; Digital Supply(Max)(V): 1.9; Resolution(Bits): 12; Sample Rate (max)(SPS): 65M; SFDR(dB): 55; SNR(dB): 66; SubFamily: High Speed ADC (>10MSPS); DatasheetVersion: SLOS574B; PackageVersion: 4204106/F, 11/2011; PackageReference: RGC64-7400X7400TP; PackageDescription: 64-Pin Plastic Quad Flatpack No-Lead, Body 9 x 9 mm, Pitch 0.5 mm; Supplier 1: Digi-Key; Supplier Part Number 1: ADS1210U/1KG4-ND; Supplier 2: Newark; Supplier Part Number 2: 24K4012; Supplier 3: Mouser; Supplier Part Number 3: 595-ADS1210U/1KG4; Digital Supply(Min)(V): 1.7; Eco-Plan: Green (RoHS & no Sb/Br); Mounting Technology: Surface Mount; ComponentLink1Description: Manufacturer URL; ComponentLink1URL: http://www.ti.com/; ComponentLink2Description: Datasheet; ComponentLink2URL: http://www.ti.com/general/docs/lit/getliterature.tsp?genericPartNumber=AFE5851&fileType=pdf; ComponentLink3Description: Package Specification; ComponentLink3URL: http://www.ti.com/litv/pdf/mpqf125e
footprint TI-RGC64-7400X7400TP_V (QFN, 64-Leads, Body 9x9mm, Pitch 0.5mm, Thermal Pad 7.4x7.4mm, TI Recommended)
part A pins: 1 IN1 (in) "Single-ended analog input pins for channel 1 to 16.", 2 IN2 (in) "Single-ended analog input pins for channel 1 to 16.", 3 IN3 (in) "Single-ended analog input pins for channel 1 to 16.", 4 IN4 (in) "Single-ended analog input pins for channel 1 to 16.", 5 IN5 (in) "Single-ended analog input pins for channel 1 to 16.", 6 IN6 (in) "Single-ended analog input pins for channel 1 to 16.", 7 IN7 (in) "Single-ended analog input pins for channel 1 to 16.", 8 IN8 (in) "Single-ended analog input pins for channel 1 to 16.", 9 IN9 (in) "Single-ended analog input pins for channel 1 to 16.", 10 IN10 (in) "Single-ended analog input pins for channel 1 to 16.", 11 IN11 (in) "Single-ended analog input pins for channel 1 to 16.", 12 IN12 (in) "Single-ended analog input pins for channel 1 to 16.", 13 IN13 (in) "Single-ended analog input pins for channel 1 to 16.", 14 IN14 (in) "Single-ended analog input pins for channel 1 to 16.", 15 IN15 (in) "Single-ended analog input pins for channel 1 to 16.", 16 IN16 (in) "Single-ended analog input pins for channel 1 to 16.", 17 VCM (out) "Common-mode output pins for possible bias of the analog input signals", 21 CLKINP (in) "Differential clock input pins. Single-ended clock is also supported. See the Clock Inputs section.", 22 CLKINM (in) "Differential clock input pins. Single-ended clock is also supported. See the Clock Inputs section.", 25 VREF_IN (in) "Reference input in the external reference mode", 26 NC "Do not connect", 27 NC "Do not connect", 31 D8M (hiz) "LVDS output for channels 1 and 2, 3 and 4, 5 and 6.... to 15 and 16.", 32 D8P (hiz) "LVDS output for channels 1 and 2, 3 and 4, 5 and 6.... to 15 and 16.", 33 D7M (hiz) "LVDS output for channels 1 and 2, 3 and 4, 5 and 6.... to 15 and 16.", 34 D7P (hiz) "LVDS output for channels 1 and 2, 3 and 4, 5 and 6.... to 15 and 16.", 35 D6M (hiz) "LVDS output for channels 1 and 2, 3 and 4, 5 and 6.... to 15 and 16.", 36 D6P (hiz) "LVDS output for channels 1 and 2, 3 and 4, 5 and 6.... to 15 and 16.", 37 D5M (hiz) "LVDS output for channels 1 and 2, 3 and 4, 5 and 6.... to 15 and 16.", 38 D5P (hiz) "LVDS output for channels 1 and 2, 3 and 4, 5 and 6.... to 15 and 16.", 39 FCLKM (out) "LVDS frame clock output", 40 FCLKP (out) "LVDS frame clock output", 41 DCLKM (out) "LVDS bit clock output", 42 DCLKP (out) "LVDS bit clock output", 43 D4M (hiz) "LVDS output for channels 1 and 2, 3 and 4, 5 and 6.... to 15 and 16.", 44 D4P (hiz) "LVDS output for channels 1 and 2, 3 and 4, 5 and 6.... to 15 and 16.", 45 D3M (hiz) "LVDS output for channels 1 and 2, 3 and 4, 5 and 6.... to 15 and 16.", 46 D3P (hiz) "LVDS output for channels 1 and 2, 3 and 4, 5 and 6.... to 15 and 16.", 47 D2M (hiz) "LVDS output for channels 1 and 2, 3 and 4, 5 and 6.... to 15 and 16.", 48 D2P (hiz) "LVDS output for channels 1 and 2, 3 and 4, 5 and 6.... to 15 and 16.", 49 D1M (hiz) "LVDS output for channels 1 and 2, 3 and 4, 5 and 6.... to 15 and 16.", 50 D1P (hiz) "LVDS output for channels 1 and 2, 3 and 4, 5 and 6.... to 15 and 16.", 53 SDOUT (out) "Serial interface data readout", 54 ~{SEN} (in) "Serial interface enable. 100kohm pullup resistor", 55 SDATA (in) "Serial interface data input. 100kohm pulldown resistor", 56 SCLK (in) "Serial interface clock input. 100kohm pulldown resistor", 57 RESET (in) "Hardware reset pin (active-high). 100kohm pulldown resistor", 58 SYNC (in) "TGC/VGA synchronization signal input. 100kohm pulldown resistor", 59 PDN (in) "Global power-down control input (active-high). 100kohm pulldown resistor", 60 NC "Do not connect", 64 VCM (out) "Common-mode output pins for possible bias of the analog input signals"
part B pins: 18 AVDD3 (power) "3.3V analog supply voltage", 19 AVDD18 (power) "1.8V analog supply voltage", 20 AVSS (power) "Analog ground", 23 AVSS (power) "Analog ground", 24 AVDD18 (power) "1.8V analog supply voltage", 28 DVDD18 (power) "1.8V LVDS buffer supply voltage", 29 DVSS (power) "Digital ground", 30 DVDD18 (power) "1.8V LVDS buffer supply voltage", 51 DVDD18 (power) "1.8V LVDS buffer supply voltage", 52 DVSS (power) "Digital ground", 61 AVSS (power) "Analog ground", 62 AVDD18 (power) "1.8V analog supply voltage", 63 AVSS (power) "Analog ground", 65 EP (power) "Connect to AVSS"

## AMC1200SDUB
designator U?
4 kV Peak Isolated Amplifier for Current Shunt Measurements, -40 to 125 degC, 8-pin SOP (DUB8), Green (RoHS & no Sb/Br); Manufacturer: Texas Instruments; PartNumber: AMC1200SDUB; # Input Channels: 1; Analog Voltage AV/DD(Max)(V): 5.5; Analog Voltage AV/DD(Min)(V): 4.5; Architecture: Delta-Sigma, Modulator; Digital Supply(Min)(V): 2.7; SubFamily: Isolated Precision ADC (<=10MSPS); DatasheetVersion: SBAS542B; PackageVersion: 4207614/C, 05/2006; PackageReference: DUB8; PackageDescription: 8-Pin Plastic Small Outline, Body 9.5 x 6.62 mm, Pitch 2.54 mm; Supplier 1: Digi-Key; Supplier Part Number 1: ADS1210UG4-ND; Supplier 2: Newark; Supplier Part Number 2: 24K4013; Supplier 3: Mouser; Supplier Part Number 3: 595-ADS1210UG4; Digital Supply(Max)(V): 5.5; Eco-Plan: Green (RoHS & no Sb/Br); Mounting Technology: Surface Mount; ComponentLink1Description: Manufacturer URL; ComponentLink1URL: http://www.ti.com/; ComponentLink2Description: Datasheet; ComponentLink2URL: http://www.ti.com/general/docs/lit/getliterature.tsp?genericPartNumber=AMC1200&fileType=pdf; ComponentLink3Description: Package Specification; ComponentLink3URL: http://www.ti.com/lit/ml/mpds247b/mpds247b.pdf
footprint TI-DUB8_N (SOP, 8-Leads, Body 9.5x6.62mm, Pitch 2.54mm, IPC Medium Density)
footprint TI-DUB8_L (SOP, 8-Leads, Body 9.5x6.62mm, Pitch 2.54mm, IPC High Density)
footprint TI-DUB8_M (SOP, 8-Leads, Body 9.5x6.62mm, Pitch 2.54mm, IPC Low Density)
pins: 1 VDD1 (power) "High-side power supply", 2 VINP (in) "Noninverting analog input", 3 VINN (in) "Inverting analog input", 4 GND1 (power) "High-side analog ground", 5 GND2 (power) "Low-side analog ground", 6 VOUTN (out) "Inverting analog output", 7 VOUTP (out) "Noninverting analog output", 8 VDD2 (power) "Low-side power supply"

## AMC1200SDUBR
designator U?
4 kV Peak Isolated Amplifier for Current Shunt Measurements, -40 to 125 degC, 8-pin SOP (DUB8), Green (RoHS & no Sb/Br); Manufacturer: Texas Instruments; PartNumber: AMC1200SDUBR; # Input Channels: 1; Analog Voltage AV/DD(Max)(V): 5.5; Analog Voltage AV/DD(Min)(V): 4.5; Architecture: Delta-Sigma, Modulator; Digital Supply(Min)(V): 2.7; SubFamily: Isolated Precision ADC (<=10MSPS); DatasheetVersion: SBAS542B; PackageVersion: 4207614/C, 05/2006; PackageReference: DUB8; PackageDescription: 8-Pin Plastic Small Outline, Body 9.5 x 6.62 mm, Pitch 2.54 mm; Supplier 1: Digi-Key; Supplier Part Number 1: ADS800U-ND; Supplier 2: Newark; Supplier Part Number 2: 35C1569; Supplier 3: Mouser; Supplier Part Number 3: 595-ADS800U; Digital Supply(Max)(V): 5.5; Eco-Plan: Green (RoHS & no Sb/Br); Mounting Technology: Surface Mount; ComponentLink1Description: Manufacturer URL; ComponentLink1URL: http://www.ti.com/; ComponentLink2Description: Datasheet; ComponentLink2URL: http://www.ti.com/general/docs/lit/getliterature.tsp?genericPartNumber=AMC1200&fileType=pdf; ComponentLink3Description: Package Specification; ComponentLink3URL: http://www.ti.com/lit/ml/mpds247b/mpds247b.pdf
footprint TI-DUB8_N (SOP, 8-Leads, Body 9.5x6.62mm, Pitch 2.54mm, IPC Medium Density)
footprint TI-DUB8_L (SOP, 8-Leads, Body 9.5x6.62mm, Pitch 2.54mm, IPC High Density)
footprint TI-DUB8_M (SOP, 8-Leads, Body 9.5x6.62mm, Pitch 2.54mm, IPC Low Density)
pins: 1 VDD1 (power) "High-side power supply", 2 VINP (in) "Noninverting analog input", 3 VINN (in) "Inverting analog input", 4 GND1 (power) "High-side analog ground", 5 GND2 (power) "Low-side analog ground", 6 VOUTN (out) "Inverting analog output", 7 VOUTP (out) "Noninverting analog output", 8 VDD2 (power) "Low-side power supply"

## AMC1204DW
designator U?
1-Bit, 20 MHz, 2nd-Order, Isolated Delta-Sigma Modulator, -40 to 125 degC, 16-pin SOIC (DW16), Green (RoHS & no Sb/Br); Manufacturer: Texas Instruments; PartNumber: AMC1204DW; # Input Channels: 1; Analog Voltage AV/DD(Max)(V): 5.5; Analog Voltage AV/DD(Min)(V): 4.5; Architecture: Delta-Sigma, Modulator; Digital Supply(Min)(V): 3; INL(Max)(+/-LSB): 8; Interface: Serial; Resolution(Bits): 16; Sample Rate (max)(SPS): 78k; SFDR(dB): 96; SINAD(dB): 87; SNR(dB): 88; SubFamily: Isolated Precision ADC (<=10MSPS); DatasheetVersion: SBAS512C; PackageVersion: 4040000-2/G, 01/2011; PackageReference: DW16; PackageDescription: 16-Pin Plastic Small Outline, Body 10.30 x 7.50 mm, Pitch 1.27 mm; Supplier 1: Digi-Key; Supplier Part Number 1: ADS800U/1K-ND; Supplier 2: Mouser; Supplier Part Number 2: 595-ADS800U/1K; Digital Supply(Max)(V): 5.5; Eco-Plan: Green (RoHS & no Sb/Br); Mounting Technology: Surface Mount; Code_JEDEC: MS-013; ComponentLink1Description: Manufacturer URL; ComponentLink1URL: http://www.ti.com/; ComponentLink2Description: Datasheet; ComponentLink2URL: http://www.ti.com/general/docs/lit/getliterature.tsp?genericPartNumber=AMC1204&fileType=pdf; ComponentLink3Description: Package Specification; ComponentLink3URL: http://www.ti.com/litv/pdf/msoi003g
footprint TI-DW16_N (SOIC, 16-Leads, Body 10.3x7.5mm, Pitch 1.27mm, IPC Medium Density)
footprint TI-DW16_L (SOIC, 16-Leads, Body 10.3x7.5mm, Pitch 1.27mm, IPC High Density)
footprint TI-DW16_M (SOIC, 16-Leads, Body 10.3x7.5mm, Pitch 1.27mm, IPC Low Density)
part A pins: 1 AVDD (power) "High-side power supply", 2 VINP (in) "Noninverting analog input", 3 VINN (in) "Inverting analog input", 4 AGND (power) "High-side ground", 8 AGND (power) "High-side ground", 9 DGND (power) "Controller-side ground", 11 DATA (hiz) "Modulator data output", 13 CLKIN (in) "Modulator clock input", 14 DVDD (power) "Controller-side power supply", 16 DGND (power) "Controller-side ground"
part B pins: 5 NC "No internal connection; can be tied to any potential or left unconnected", 6 NC "No internal connection; can be tied to any potential or left unconnected", 7 NC "No internal connection; can be tied to any potential or left unconnected", 10 NC "No internal connection; can be tied to any potential or left unconnected", 12 NC "No internal connection; can be tied to any potential or left unconnected", 15 NC "No internal connection; can be tied to any potential or left unconnected"

## AMC1204DWR
designator U?
1-Bit, 20 MHz, 2nd-Order, Isolated Delta-Sigma Modulator, -40 to 125 degC, 16-pin SOIC (DW16), Green (RoHS & no Sb/Br); Manufacturer: Texas Instruments; PartNumber: AMC1204DWR; # Input Channels: 1; Analog Voltage AV/DD(Max)(V): 5.5; Analog Voltage AV/DD(Min)(V): 4.5; Architecture: Delta-Sigma, Modulator; Digital Supply(Min)(V): 3; INL(Max)(+/-LSB): 8; Interface: Serial; Resolution(Bits): 16; Sample Rate (max)(SPS): 78k; SFDR(dB): 96; SINAD(dB): 87; SNR(dB): 88; SubFamily: Isolated Precision ADC (<=10MSPS); DatasheetVersion: SBAS512C; PackageVersion: 4040000-2/G, 01/2011; PackageReference: DW16; PackageDescription: 16-Pin Plastic Small Outline, Body 10.30 x 7.50 mm, Pitch 1.27 mm; Supplier 1: Digi-Key; Supplier Part Number 1: ADS800U/1KG4-ND; Supplier 2: Mouser; Supplier Part Number 2: 595-ADS800U/1KG4; Digital Supply(Max)(V): 5.5; Eco-Plan: Green (RoHS & no Sb/Br); Mounting Technology: Surface Mount; Code_JEDEC: MS-013; ComponentLink1Description: Manufacturer URL; ComponentLink1URL: http://www.ti.com/; ComponentLink2Description: Datasheet; ComponentLink2URL: http://www.ti.com/general/docs/lit/getliterature.tsp?genericPartNumber=AMC1204&fileType=pdf; ComponentLink3Description: Package Specification; ComponentLink3URL: http://www.ti.com/litv/pdf/msoi003g
footprint TI-DW16_N (SOIC, 16-Leads, Body 10.3x7.5mm, Pitch 1.27mm, IPC Medium Density)
footprint TI-DW16_L (SOIC, 16-Leads, Body 10.3x7.5mm, Pitch 1.27mm, IPC High Density)
footprint TI-DW16_M (SOIC, 16-Leads, Body 10.3x7.5mm, Pitch 1.27mm, IPC Low Density)
part A pins: 1 AVDD (power) "High-side power supply", 2 VINP (in) "Noninverting analog input", 3 VINN (in) "Inverting analog input", 4 AGND (power) "High-side ground", 8 AGND (power) "High-side ground", 9 DGND (power) "Controller-side ground", 11 DATA (hiz) "Modulator data output", 13 CLKIN (in) "Modulator clock input", 14 DVDD (power) "Controller-side power supply", 16 DGND (power) "Controller-side ground"
part B pins: 5 NC "No internal connection; can be tied to any potential or left unconnected", 6 NC "No internal connection; can be tied to any potential or left unconnected", 7 NC "No internal connection; can be tied to any potential or left unconnected", 10 NC "No internal connection; can be tied to any potential or left unconnected", 12 NC "No internal connection; can be tied to any potential or left unconnected", 15 NC "No internal connection; can be tied to any potential or left unconnected"